# Altium footprint library VBlib_Fuses.PcbLib: 5 footprints
Each footprint in its own frame and in the unit in brackets; x right, y up, seen from the top. Pads: shape width x height; smd on the part's side, far side on the other; paste and mask are expansions set on the pad; w line width, h text height; cw(c..) or ccw(c..) is an arc to the next point about the centre after c.
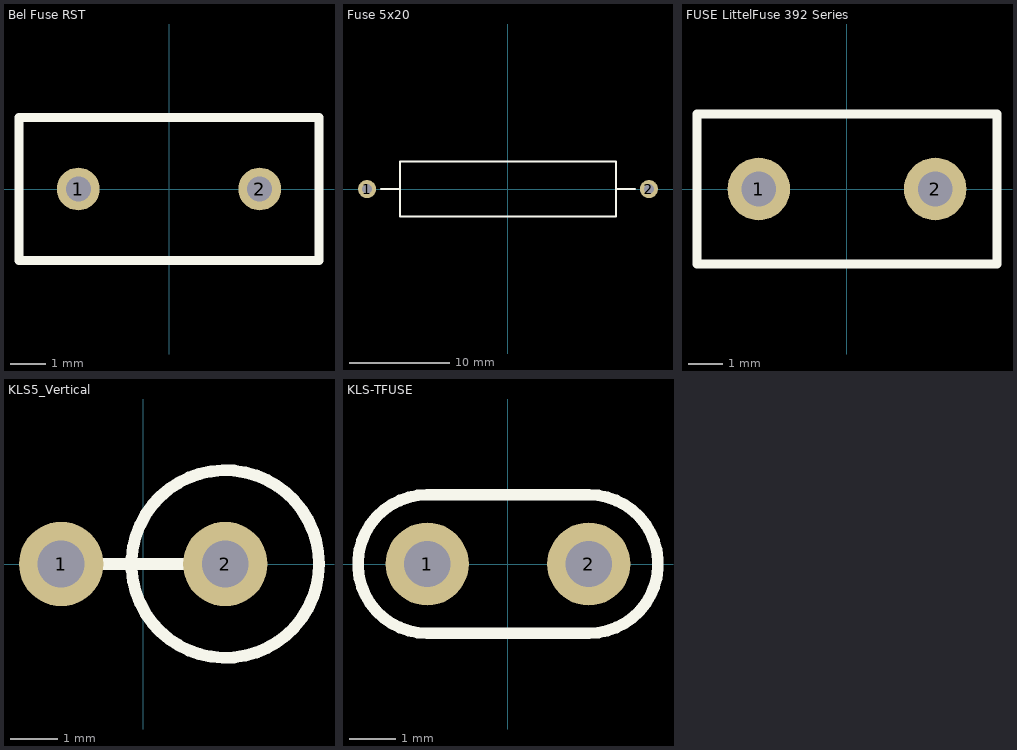
[diagram p0: the footprints below, top view; thin cyan lines are the x and y axes]

## Bel Fuse RST [mm]
pads (2):
  round 1.2 hole 0.7: 1(-2.54,0) 2(2.54,0)
Top Overlay:
  lines w0.25: -4.2,-2 4.2,-2 4.2,2 -4.2,2 -4.2,-2
3D body: height 0, standoff -2.5, extent 2.242,-0.299 2.84,0.299
3D body: height 0, standoff -2.5, extent -2.838,-0.299 -2.24,0.299
3D body: height 7.7, standoff 0, extent -4.2,-2 4.2,2

## Fuse 5x20 [mm] "Thru-Hole; 2 Leads"
height 5
pads (2):
  round 1.8 hole 1: 1(-14,0) 2(14,0)
Top Overlay:
  lines w0.2: -12.6,0 -10.75,0 ; 10.75,-2.75 -10.75,-2.75 -10.75,2.75 10.75,2.75 ; 10.75,-2.743 10.75,2.757 ; 10.75,0 12.6,0
3D body: height 5.3, standoff 0.7, extent -5.65,-2.3 5.65,2.3
3D body: height 5.75, standoff 0.25, extent 8.15,-2.744 10.75,2.756
3D body: height 5.75, standoff 0.25, extent -10.75,-2.75 -8.15,2.75
3D body: height 5.5, standoff 0.5, extent 5.65,-2.497 10.75,2.497
3D body: height 5.5, standoff 0.5, extent -10.75,-2.497 -5.65,2.497
3D body "Fuse_5x20_1.STEP": height 3.4, standoff -2.5, extent -14.4,-0.4 -2,0.4
3D body "Fuse_5x20_1.STEP": height 3.4, standoff -2.5, extent 2,-0.4 14.4,0.4

## FUSE LittelFuse 392 Series [mm] "Площадка под предохранитель, шаг 5.08мм"
height 8
pads (2):
  round 1.8 hole 1: 1(-2.54,0) 2(2.54,0)
Top Overlay:
  lines w0.25: -4.318,-2.159 4.318,-2.159 4.318,2.159 -4.318,2.159 -4.318,-2.159
3D body "Littelfuse 392 Series.STEP": height 8, standoff -2, extent -4.25,-2.252 4.25,2.252

## KLS5_Vertical [mm]
pads (2):
  round 1.8 hole 1: 1(-1.75,0) 2(1.75,0)
Top Overlay:
  circle w0.254: c1.75,0 r2
  lines w0.25: -1.75,0 1.75,0
3D body "KLS5-205.STEP": height 13, standoff -2.5, extent -2.25,-1.8 3.55,1.8

## KLS-TFUSE [mm]
pads (2):
  round 1.8 hole 1: 1(-1.75,0) 2(1.75,0)
Top Overlay:
  lines w0.25: -1.75,-1.5 cw(c-1.75,0) -1.75,1.5 1.75,1.5 cw(c1.75,0) 1.75,-1.5 -1.75,-1.5